# Altium footprint library ECGLib.PcbLib: 28 footprints (part 2 of 2)
Each footprint in its own frame and in the unit in brackets; x right, y up, seen from the top. Pads: shape width x height; smd on the part's side, far side on the other; paste and mask are expansions set on the pad; w line width, h text height; cw(c..) or ccw(c..) is an arc to the next point about the centre after c.
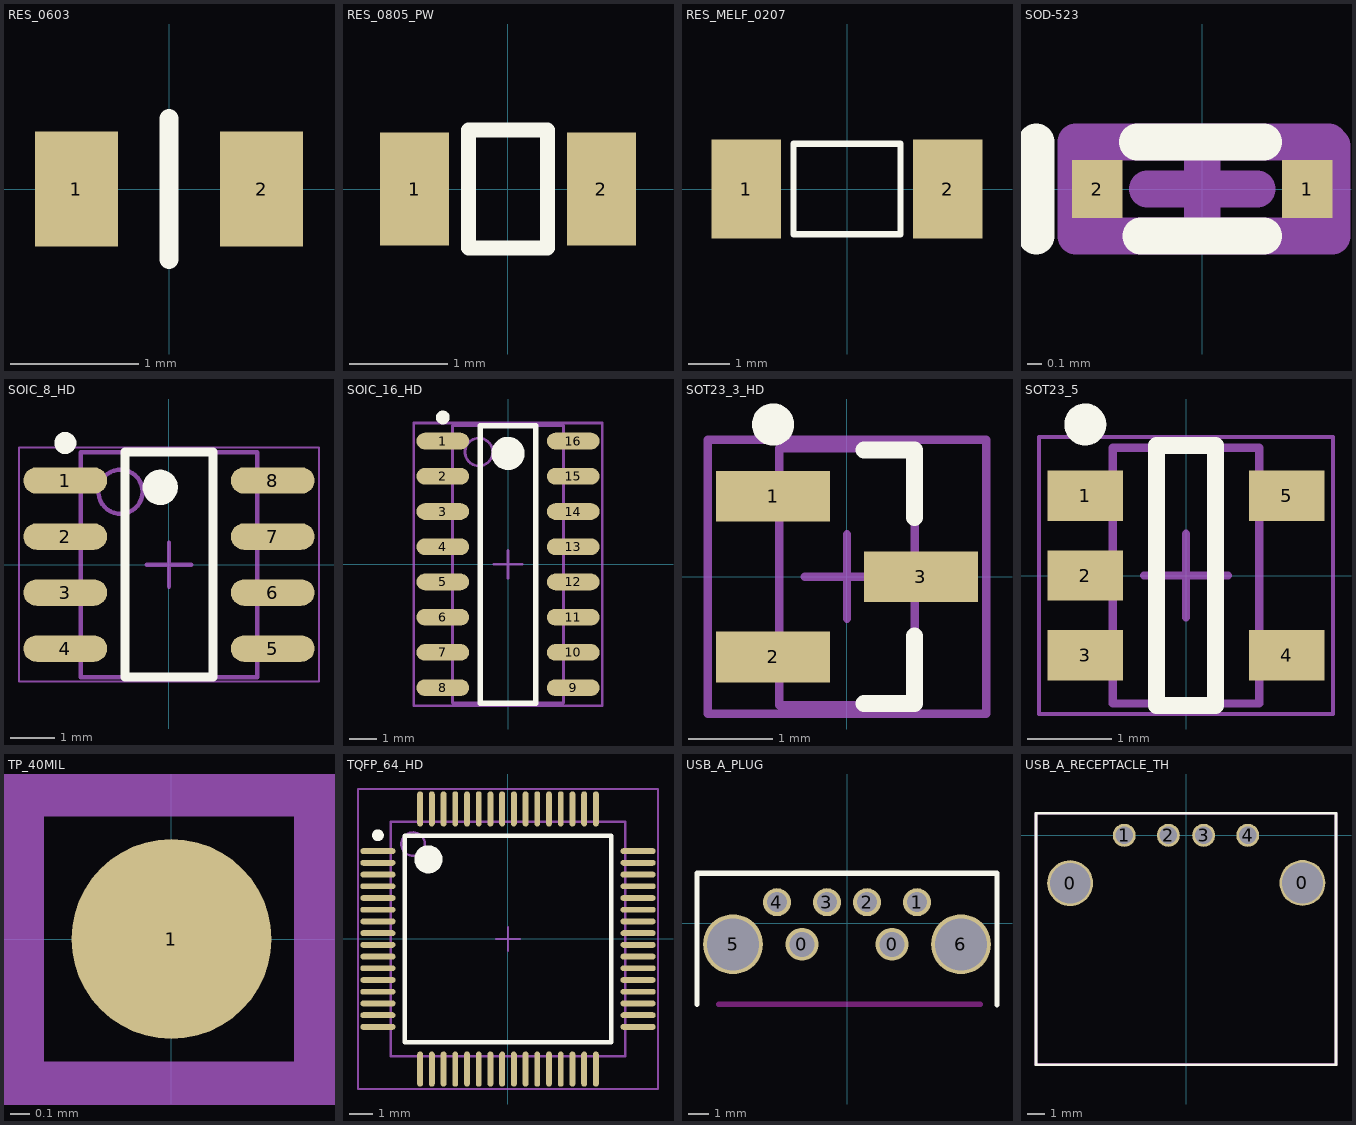
[diagram p1: the footprints below, top view; thin cyan lines are the x and y axes]

## RES_0603 [mm]
pads (2):
  rect 0.65x0.9 smd: 1(-0.725,0) 2(0.725,0)
Top Overlay:
  lines w0.152: 0,-0.55 0,0.55
3D body: height 0.45, standoff 0, extent -0.8,-0.4 0.8,0.4

## RES_0805_PW [mm] "Pulse Withstanding 0805"
pads (2):
  rect 0.7x1.15 smd: 1(-0.95,0) 2(0.95,0)
Top Overlay:
  lines w0.152: -0.4,-0.6 -0.4,0.6 0.4,0.6 0.4,-0.6 -0.4,-0.6
3D body: height 0.55, standoff 0, extent -1,-0.625 1,0.625

## RES_MELF_0207 [mm]
pads (2):
  rect 1.7x2.4 smd: 1(-2.45,0) 2(2.45,0)
Top Overlay:
  lines w0.152: -1.3,-1.1 -1.3,1.1 1.3,1.1 1.3,-1.1 -1.3,-1.1
3D body: height 2.19, standoff 0, extent -2.9,-1.098 2.9,1.098

## SOD-523 [mm]
pads (2):
  rect 0.35x0.4 smd: 1(0.725,0) 2(-0.725,0)
Top Overlay:
  lines w0.254: -1.15,-0.325 -1.15,0.325 ; -0.45,0.325 0.425,0.325 ; -0.425,-0.325 0.425,-0.325
Mechanical 15:
  lines w0.254: -0.381,0 0,0 ; 0,-0.325 0,0 ; 0,0.254 0,0 ; 0.381,0 0,0 ; 0.875,0.325 -0.875,0.325 -0.875,-0.325 0.9,-0.325 0.9,0.3
  text ".Designator" at -0.889,0.635 h0.51
3D body: height 0.7, standoff 0.01, extent -0.65,-0.45 0.65,0.45

## SOIC_8_HD [mm] "SOIC, 8-Leads, Body 4.92x3.90mm, Pitch 1.27mm, IPC High Density"
height 1.75
pads (8):
  oval 1.9x0.6 smd: 1(-2.35,1.905) 2(-2.35,0.635) 3(-2.35,-0.635) 4(-2.35,-1.905) 5(2.35,-1.905) 6(2.35,-0.635) 7(2.35,0.635) 8(2.35,1.905)
Top Overlay:
  circle w0.25: c-2.35,2.755 r0.125
  circle w0.4: c-0.2,1.75 r0.2
  lines w0.2: -1,-2.55 -1,2.55 1,2.55 1,-2.55 -1,-2.55
Mechanical 13:
  circle w0.1: c-1.1,1.65 r0.5
  lines w0.1: -2,-2.55 -2,2.55 2,2.55 2,-2.55 -2,-2.55
Mechanical 15:
  lines w0.05: -3.4,-2.65 -3.4,2.65 3.4,2.65 3.4,-2.65 -3.4,-2.65
  lines w0.1: -0.5,0 0.5,0 ; 0,-0.5 0,0.5
3D body: height 1.75, standoff 0.1, extent -2,-2.55 2,2.55

## SOIC_16_HD [mm] "SOIC, 16-Leads, Body 10.0x4.0mm (max), Pitch 1.27mm, IPC High Density"
height 1.75
pads (16):
  oval 1.9x0.6 smd: 1(-2.35,4.445) 2(-2.35,3.175) 3(-2.35,1.905) 4(-2.35,0.635) 5(-2.35,-0.635) 6(-2.35,-1.905) 7(-2.35,-3.175) 8(-2.35,-4.445) 9(2.35,-4.445) 10(2.35,-3.175) 11(2.35,-1.905) 12(2.35,-0.635) 13(2.35,0.635) 14(2.35,1.905) 15(2.35,3.175) 16(2.35,4.445)
Top Overlay:
  circle w0.25: c-2.35,5.295 r0.125
  circle w0.6: c0,4 r0.3
  lines w0.2: -1,-5 -1,5 1,5 1,-5 -1,-5
Mechanical 13:
  circle w0.1: c-1.05,4.05 r0.5
  lines w0.1: -2,-5 -2,5 2,5 2,-5 -2,-5
Mechanical 15:
  lines w0.1: -0.5,0 0.5,0 ; 0,-0.5 0,0.5 ; -3.4,-5.1 -3.4,5.1 3.4,5.1 3.4,-5.1 -3.4,-5.1
3D body: height 1.75, standoff 0.1, extent -2,-5 2,5

## SOT23_3_HD [mm] "SOT23, 3-Leads, Body 3.0x2.8mm (max), Pitch 0.95mm, IPC High Density"
height 1.4
pads (3):
  rect 1.35x0.6 smd: 1(-0.875,0.95) 2(-0.875,-0.95) 3(0.875,0)
Top Overlay:
  circle w0.25: c-0.875,1.8 r0.125
  lines w0.2: 0.2,-1.5 0.8,-1.5 0.8,-0.7 ; 0.2,1.5 0.8,1.5 0.8,0.7
Mechanical 13:
  lines w0.1: -0.8,-1.52 -0.8,1.52 0.8,1.52 0.8,-1.52 -0.8,-1.52
Mechanical 15:
  lines w0.1: -0.5,0 0.5,0 ; 0,-0.5 0,0.5 ; -1.65,-1.62 -1.65,1.62 1.65,1.62 1.65,-1.62 -1.65,-1.62
3D body: height 1.4, standoff 0, extent -0.8,-1.52 0.8,1.52

## SOT23_5 [mm] "SOT23, 5-Leads, Body 2.90x2.80mm, Pitch 0.95mm, IPC High Density"
height 1.45
pads (5):
  rect 0.9x0.6 smd: 1(-1.2,0.95) 2(-1.2,0) 3(-1.2,-0.95) 4(1.2,-0.95) 5(1.2,0.95)
Top Overlay:
  circle w0.25: c-1.2,1.8 r0.125
  lines w0.2: -0.35,-1.55 -0.35,1.55 0.35,1.55 0.35,-1.55 -0.35,-1.55
Mechanical 13:
  lines w0.1: -0.875,-1.525 0.875,-1.525 0.875,1.525 -0.875,1.525 -0.875,-1.525
Mechanical 15:
  lines w0.05: -1.75,-1.65 1.75,-1.65 1.75,1.65 -1.75,1.65 -1.75,-1.65
  lines w0.1: -0.5,0 0.5,0 ; 0,-0.5 0,0.5
3D body: height 1.45, standoff 0, extent -0.875,-1.525 0.875,1.525

## TP_40MIL [mil] "40mil Diameter Test Point"
pads (1):
  round 40 smd: 1(0,0)
Mechanical 15:
  lines w10: -30.51,29.53 -30.51,-29.53 29.53,-29.53 29.53,29.53 ; -29.53,29.53 27.56,29.53
  text ".Designator" at 0,0 h20

## TQFP_64_HD [mm] "TSQFP, 64-Leads, Body 12.2x12.2mm (max), Pitch 0.50mm, IPC High Density"
height 1.2
pads (64):
  oval 1.5x0.25 smd: 1(-5.55,3.75) 2(-5.55,3.25) 3(-5.55,2.75) 4(-5.55,2.25) 5(-5.55,1.75) 6(-5.55,1.25) 7(-5.55,0.75) 8(-5.55,0.25) 9(-5.55,-0.25) 10(-5.55,-0.75) 11(-5.55,-1.25) 12(-5.55,-1.75) 13(-5.55,-2.25) 14(-5.55,-2.75) 15(-5.55,-3.25) 16(-5.55,-3.75) 33(5.55,-3.75) 34(5.55,-3.25) 35(5.55,-2.75) 36(5.55,-2.25) 37(5.55,-1.75) 38(5.55,-1.25) 39(5.55,-0.75) 40(5.55,-0.25) 41(5.55,0.25) 42(5.55,0.75) 43(5.55,1.25) 44(5.55,1.75) 45(5.55,2.25) 46(5.55,2.75) 47(5.55,3.25) 48(5.55,3.75)
  oval 0.25x1.5 smd: 17(-3.75,-5.55) 18(-3.25,-5.55) 19(-2.75,-5.55) 20(-2.25,-5.55) 21(-1.75,-5.55) 22(-1.25,-5.55) 23(-0.75,-5.55) 24(-0.25,-5.55) 25(0.25,-5.55) 26(0.75,-5.55) 27(1.25,-5.55) 28(1.75,-5.55) 29(2.25,-5.55) 30(2.75,-5.55) 31(3.25,-5.55) 32(3.75,-5.55) 49(3.75,5.55) 50(3.25,5.55) 51(2.75,5.55) 52(2.25,5.55) 53(1.75,5.55) 54(1.25,5.55) 55(0.75,5.55) 56(0.25,5.55) 57(-0.25,5.55) 58(-0.75,5.55) 59(-1.25,5.55) 60(-1.75,5.55) 61(-2.25,5.55) 62(-2.75,5.55) 63(-3.25,5.55) 64(-3.75,5.55)
Top Overlay:
  circle w0.25: c-5.55,4.425 r0.125
  circle w0.6: c-3.4,3.4 r0.3
  lines w0.2: -4.4,-4.4 -4.4,4.4 4.4,4.4 4.4,-4.4 -4.4,-4.4
Mechanical 13:
  circle w0.1: c-4.05,4.05 r0.5
  lines w0.1: -5,-5 -5,5 5,5 5,-5 -5,-5
Mechanical 15:
  lines w0.1: -0.5,0 0.5,0 ; 0,-0.5 0,0.5 ; -6.4,-6.4 -6.4,6.4 6.4,6.4 6.4,-6.4 -6.4,-6.4
  text ".Designator" at -2.667,-2.667 h1.52
3D body: height 1.2, standoff 0.05, extent -5,-5 5,5

## USB_A_PLUG [mm] "CONN PLUG USB 4POS RT ANG PCB"
pads (8):
  round 1.65 hole 1.25: 0(-2.25,-1.05) 0(2.25,-1.05)
  round 1.4 hole 1: 1(3.5,1.05) 2(1,1.05) 3(-1,1.05) 4(-3.5,1.05)
  round 3 hole 2.6: 5(-5.7,-1.05) 6(5.7,-1.05)
Top Overlay:
  lines w0.254: -7.5,-4.05 -7.5,2.5 7.5,2.5 7.5,-4.075
Keep-Out Layer:
  lines w0.254: -6.425,-4.05 6.675,-4.05
3D body: height 4.5, standoff -1.48, extent -6.327,-18.781 6.476,1.307

## USB_A_RECEPTACLE_TH [mm] "THROUGH HOLE USB A RECEPTACLE"
pads (6):
  round 2.6 hole 2.3: 0(-6.57,-2.71) 0(6.6,-2.7)
  round 1.3 hole 1: 1(-3.5,0) 2(-1,0) 3(1,0) 4(3.5,0)
Top Overlay:
  lines w0.152: -8.5,-13 -8.5,1.25 8.5,1.25 8.5,-13 -8.5,-13
Keep-Out Layer:
  lines w0.152: -8.5,-13 8.5,-13
Mechanical 15:
  lines w0.152: -8.5,-13 8.5,-13 8.5,1.25 -8.5,1.25 -8.5,-13
  text ".Designator" at -3.95,-6.175 h1.02
3D body: height 7.27, standoff -4.02, extent -8.25,-13.01 7.982,1.01